# Altium schematic symbol library OLED SPI 7.SchLib: 1 symbol
Pins are listed as number, name and electrical type; pins without a type are passive.

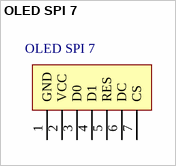
[diagram p0: symbol OLED SPI 7]

## OLED SPI 7
designator OLED SPI 7  (value not drawn)
footprint OLED SPI 7
pins: 1 GND, 2 VCC, 3 D0, 4 D1, 5 RES, 6 DC, 7 CS